# Altium schematic symbol library WL-SFCW.SchLib: 5 symbols
Pins are listed as number, name and electrical type; pins without a type are passive.

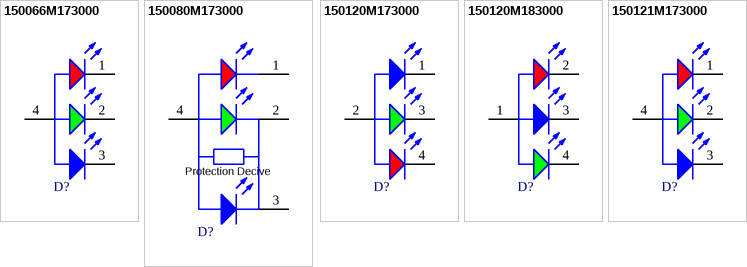
[diagram p0: symbols 150066M173000 to 150121M173000]

## 150066M173000
designator D?, comment Red & Green & Blue, 120°  (value not drawn)
WL-SFCW Full-color Chip LED Waterclear, SMT, size 0606, Red & Green & Blue, 120°; Manufacturer Part Number: 150066M173000; Manufacturer: Wurth Elektronik; Case/Size Code: 0606; Chip Technology: AlInGaP + InGaN; Dominant Wavelength (Blue): 470nm; Dominant Wavelength (Green): 527nm; Dominant Wavelength (Red): 622nm; Forward Voltage (Blue): 3.3V; Forward Voltage (Red): 1.9V; Luminous Intensity (Blue): 80mcd; Luminous Intensity (Green): 360mcd; Luminous Intensity (Red): 70mcd; Peak Wavelength (Blue): 468nm; Peak Wavelength (Green): 520nm; Peak Wavelength (Red): 636nm; Category: Signal LEDs; Match Code: WL-SFCW; ComponentLink1Description: Website Link; ComponentLink1URL: https://www.we-online.com/redexpert/article/150066M173000?ad; ComponentLink2Description: Datasheet Link; ComponentLink2URL: https://www.we-online.com/redexpert/spec/150066M173000?ad; Mount: Surface Mount; Operating Temperature Max: 85°C; Operating Temperature Min: -40°C; Packaging: Tape and Reel; Length: 1.6mm; Width: 1.6mm; Height: 0.4mm; Emitting Color: Red & Green & Blue; Forward Voltage (Green): 3.3V; Viewing Angle: 120°
footprint WL-SFCW_0606
simulation model 0606_150066M173000
pins: 1 K, 2 K, 3 K, 4 A

## 150080M173000
designator D?, comment Red & Green & Blue, 120°  (value not drawn)
WL-SFCW Full-color Chip LED Waterclear, SMT, size 0805, Red & Green & Blue, 120°; Manufacturer Part Number: 150080M173000; Manufacturer: Wurth Elektronik; Case/Size Code: 0805; Chip Technology: AlInGaP + InGaN; Dominant Wavelength (Blue): 470nm; Dominant Wavelength (Green): 525nm; Dominant Wavelength (Red): 624nm; Forward Voltage (Blue): 3.3V; Forward Voltage (Red): 2V; Luminous Intensity (Blue): 70mcd; Luminous Intensity (Green): 285mcd; Luminous Intensity (Red): 112mcd; Peak Wavelength (Blue): 468nm; Peak Wavelength (Green): 520nm; Peak Wavelength (Red): 632nm; Category: Signal LEDs; Match Code: WL-SFCW; ComponentLink1Description: Website Link; ComponentLink1URL: https://www.we-online.com/redexpert/article/150080M173000?ad; ComponentLink2Description: Datasheet Link; ComponentLink2URL: https://www.we-online.com/redexpert/spec/150080M173000?ad; Mount: Surface Mount; Operating Temperature Max: 85°C; Operating Temperature Min: -40°C; Packaging: Tape and Reel; Length: 2mm; Width: 1.3mm; Height: 0.5mm; Emitting Color: Red & Green & Blue; Forward Voltage (Green): 3.3V; Viewing Angle: 120°
footprint WL-SFCW_0805
simulation model 0805_150080M173000
pins: 1 K, 2 K, 3 K, 4 A
text: Protection Decive

## 150120M173000
designator D?, comment Red & Green & Blue, 120°  (value not drawn)
WL-SFCW Full-color Chip LED Waterclear, SMT, size 1206, Red & Green & Blue, 120°; Manufacturer Part Number: 150120M173000; Manufacturer: Wurth Elektronik; Case/Size Code: 1206; Chip Technology: AlInGaP + InGaN; Dominant Wavelength (Blue): 470nm; Dominant Wavelength (Green): 525nm; Dominant Wavelength (Red): 624nm; Forward Voltage (Blue): 3.3V; Forward Voltage (Red): 2V; Luminous Intensity (Blue): 350mcd; Luminous Intensity (Green): 1000mcd; Luminous Intensity (Red): 360mcd; Peak Wavelength (Blue): 468nm; Peak Wavelength (Green): 520nm; Peak Wavelength (Red): 632nm; Category: Signal LEDs; Match Code: WL-SFCW; ComponentLink1Description: Website Link; ComponentLink1URL: https://www.we-online.com/redexpert/article/150120M173000?ad; ComponentLink2Description: Datasheet Link; ComponentLink2URL: https://www.we-online.com/redexpert/spec/150120M173000?ad; Mount: Surface Mount; Operating Temperature Max: 85°C; Operating Temperature Min: -40°C; Packaging: Tape and Reel; Length: 3.2mm; Width: 1.6mm; Height: 0.7mm; Emitting Color: Red & Green & Blue; Forward Voltage (Green): 3.3V; Viewing Angle: 120°
footprint WL-SFCW_1206
simulation model 1206_150120M173000
pins: 1 K, 2 A, 3 K, 4 K

## 150120M183000
designator D?, comment Red & Green & Blue, 30°  (value not drawn)
WL-SFCW Full-color Chip LED Waterclear, SMT, size 1206 dome, Red & Green & Blue, 30°; Manufacturer Part Number: 150120M183000; Manufacturer: Wurth Elektronik; Chip Technology: AlInGaP + InGaN; Dominant Wavelength (Blue): 470nm; Dominant Wavelength (Green): 525nm; Dominant Wavelength (Red): 625nm; Forward Voltage (Blue): 3.2V; Forward Voltage (Green): 3V; Forward Voltage (Red): 2V; Luminous Intensity (Blue): 280mcd; Luminous Intensity (Green): 1000mcd; Luminous Intensity (Red): 300mcd; Peak Wavelength (Blue): 465nm; Peak Wavelength (Green): 520nm; Peak Wavelength (Red): 630nm; Category: Signal LEDs; Match Code: WL-SFCW; ComponentLink1Description: Website Link; ComponentLink1URL: https://www.we-online.com/redexpert/article/150120M183000?ad; ComponentLink2Description: Datasheet Link; ComponentLink2URL: https://www.we-online.com/redexpert/spec/150120M183000?ad; Mount: Surface Mount; Operating Temperature Max: 85°C; Operating Temperature Min: -40°C; Packaging: Tape and Reel; Case/Size Code: 1206 dome; Length: 3.2mm; Width: 1.6mm; Height: 1.88mm; Emitting Color: Red & Green & Blue; Viewing Angle: 30°
footprint WL-SFCW_1206 dome
simulation model 1206_150120M183000
pins: 1 A, 2 K, 3 K, 4 K

## 150121M173000
designator D?, comment Red & Green & Blue, 120°  (value not drawn)
WL-SFCW Full-color Chip LED Waterclear, SMT, size 1210, Red & Green & Blue, 120°; Manufacturer Part Number: 150121M173000; Manufacturer: Wurth Elektronik; Case/Size Code: 1210; Chip Technology: AlInGaP + InGaN; Dominant Wavelength (Blue): 470nm; Dominant Wavelength (Green): 525nm; Dominant Wavelength (Red): 624nm; Forward Voltage (Blue): 3.3V; Forward Voltage (Red): 2V; Luminous Intensity (Blue): 80mcd; Luminous Intensity (Green): 285mcd; Luminous Intensity (Red): 70mcd; Peak Wavelength (Blue): 468nm; Peak Wavelength (Green): 520nm; Peak Wavelength (Red): 632nm; Category: Signal LEDs; Match Code: WL-SFCW; ComponentLink1Description: Website Link; ComponentLink1URL: https://www.we-online.com/redexpert/article/150121M173000?ad; ComponentLink2Description: Datasheet Link; ComponentLink2URL: https://www.we-online.com/redexpert/spec/150121M173000?ad; Mount: Surface Mount; Operating Temperature Max: 85°C; Operating Temperature Min: -40°C; Packaging: Tape and Reel; Length: 3.2mm; Width: 2.7mm; Height: 1.1mm; Emitting Color: Red & Green & Blue; Forward Voltage (Green): 3.3V; Viewing Angle: 120°
footprint WL-SFCW_1210
simulation model 1210_150121M173000
pins: 1 K, 2 K, 3 K, 4 A